# Altium schematic symbol library AUIRF7799L2.SchLib: 1 symbol
Pins are listed as number, name and electrical type; pins without a type are passive.

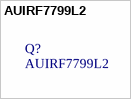
[diagram p0: symbol AUIRF7799L2]

## AUIRF7799L2
designator Q?
Manufacturer: Infineon Technologies; Manufacturer Order Number: AUIRF7799L2; PackageReference: MG-WDSON-11